# Altium schematic symbol library LED.SchLib: 1 symbol
Pins are listed as number, name and electrical type; pins without a type are passive.

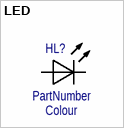
[diagram p0: symbol LED]

## LED
designator HL?  (value not drawn)
ComponentLink1Description: Datasheet; ComponentLink1URL: Datasheet_link; Voltage: Voltage; Current: Current; Manufacturer: Manufacturer; Case: Case; Colour: Colour; PartNumber: PartNumber
pins: A, C